# Altium footprint library MyPcbLib.PcbLib: 42 footprints (part 2 of 3)
Each footprint in its own frame and in the unit in brackets; x right, y up, seen from the top. Pads: shape width x height; smd on the part's side, far side on the other; paste and mask are expansions set on the pad; w line width, h text height; cw(c..) or ccw(c..) is an arc to the next point about the centre after c.
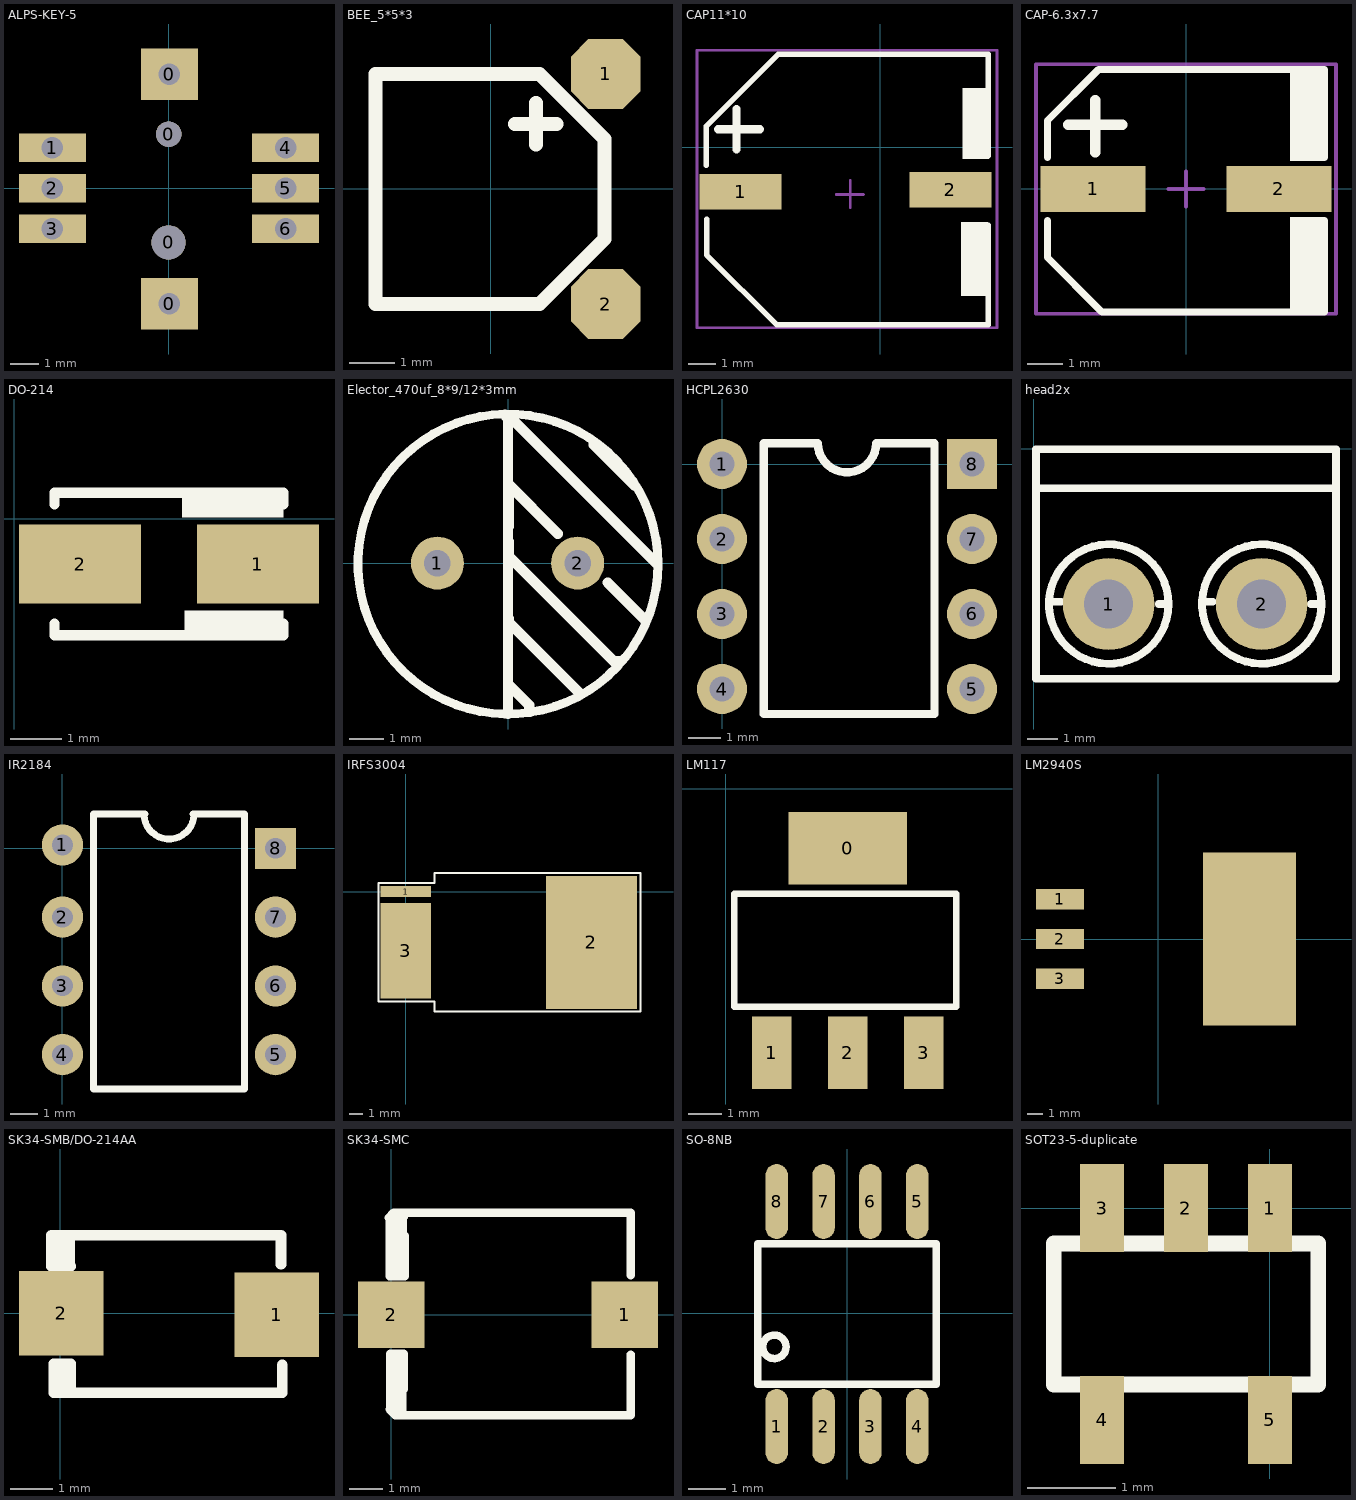
[diagram p1: the footprints below, top view; thin cyan lines are the x and y axes]

## ALPS-KEY-5 [mil]
pads (10):
  round 47.24 hole 47.24: 0(0,-75)
  round 35.43 hole 35.43: 0(0,75)
  rect 78.74x70.87 hole 30: 0(1,-160) 0(1,158)
  rect 92.52x39.37 hole 30: 1(-161,56) 2(-161,0) 3(-161,-56) 4(162,56) 5(162,0) 6(162,-56)

## BEE_5*5*3 [mil]
pads (2):
  oct 60x60 all layers, no hole: 1(99,99) 2(99,-99)
Top Overlay:
  lines w11.81: -99,99 42,99 98,43 98,-43 42,-99 -99,-99 -99,98 -98,99 ; 21,56 57,56 ; 39,38 39,74

## CAP11*10 [mil]
pads (2):
  rect 118.11x51.18 smd: 1(-201,-64) 2(101,-61)
Top Overlay:
  rectangle: 118.31,-17 157,85.35
  rectangle: 116.31,-214.25 155,-108
  lines w7.87: -251,-26 -251,30 -147.14,133.86 155.51,133.86 155.51,-12 ; -250,-104 -250,-155 -149,-256 155.51,-256 155.51,-112
  lines w11.81: -233.94,26.05 -173.42,26.05 ; -207,-3.36 -207,55
Mechanical 15:
  lines w3.94: -63.37,-68 -24,-68 ; -43,-87 -43,-47.63 ; -264,-260 -264,139.76 168.31,139.76 168.31,-260 -264,-260
3D body: height 240.16, standoff 0, extent -153.66,-172.33 55,36.33

## CAP-6.3x7.7 [mm]
pads (2):
  rect 3x1.3 smd: 1(-2.65,0) 2(2.65,0)
Top Overlay:
  rectangle: 2.967,-3.5 3.95,-0.801
  rectangle: 2.967,0.8 3.95,3.4
  lines w0.2: -3.95,-0.9 -3.95,-1.95 -2.4,-3.5 3.95,-3.5 3.95,-0.9 ; -3.95,0.9 -3.95,1.95 -2.5,3.4 3.95,3.4 3.95,0.9
  lines w0.3: -3.351,1.83 -1.814,1.83 ; -2.583,1.043 -2.583,2.525
Mechanical 15:
  lines w0.1: -0.5,0 0.5,0 ; 0,-0.5 0,0.5 ; -4.275,-3.55 4.275,-3.55 4.275,3.55 -4.275,3.55 -4.275,-3.55
3D body: height 6.1, standoff 0, extent -2.95,-2.76 2.35,2.54

## DO-214 [mm]
pads (2):
  rect 2.4x1.55 smd: 1(4.798,-0.889) 2(1.298,-0.889)
Top Overlay:
  rectangle: 3.353,-2.289 5.298,-1.803
  rectangle: 3.302,0.025 5.298,0.511
  lines w0.2: 0.798,-2.064 0.798,-2.289 5.298,-2.289 5.298,-2.064 ; 0.798,0.286 0.798,0.511 5.298,0.511 5.298,0.286
3D body: height 2.4, standoff 0, extent 0.721,-2.277 5.321,0.423

## Elector_470uf_8*9/12*3mm [mil]
pads (2):
  round 60 hole 30: 1(-80,0) 2(79,0)
Top Overlay:
  circle w10: c0,-1 r170
  lines w11.81: -2,166 2,166 168,0 ; 0,-171 0,167 ; 0,88 2,88 ; 0,96 0,90 56.5,33.5 ; 1,-138 24,-161 24,-165 ; 1,-63 1,-67 82,-148 ; 1,24 1,8 120,-111 128,-111 ; 1,42 1,88 ; 97,135 97,134 143,88 ; 113,-22 154,-63

## HCPL2630 [mil]
pads (8):
  round 60 hole 30: 1(0,0) 2(0,-90) 3(0,-180) 4(0,-270) 5(300,-270) 6(300,-180) 7(300,-90)
  rect 60x60 hole 30: 8(300,0)
Top Overlay:
  lines w10: 50,-300 255,-300 255,25 185,25 cw(c150,25) 115,25 50,25 50,-300

## head2x [mm]
pads (2):
  round 3 hole 1.6: 1(2.453,-5.08) 2(7.453,-5.08)
Top Overlay:
  circle w0.254: c2.453,-5.08 r1.952
  circle w0.254: c7.453,-5.08 r1.951
  lines w0.254: 0.076,-1.295 9.855,-1.295 9.881,-1.27 ; 0.584,-5.004 0.889,-5.004 ; 4.089,-5.08 4.405,-5.08 ; 5.563,-5.004 5.842,-5.004 ; 9.068,-5.08 9.404,-5.08 ; 0.076,-7.518 9.881,-7.518 9.881,-0.025 0.076,-0.025 0.076,-7.518

## IR2184 [mil]
pads (8):
  round 60 hole 30: 1(0,5) 2(0,-100) 3(0,-200) 4(0,-300) 5(310,-300) 6(310,-200) 7(310,-100)
  rect 60x60 hole 30: 8(310,0)
Top Overlay:
  lines w10: 118.6,50 ccw(c155,50) 191.4,50 ; 120,50 45,50 45,-350 265,-350 265,50 190,50

## IRFS3004 [mil]
pads (3):
  rect 149.37x32 smd: 1(0,0)
  rect 270.08x393.7 smd: 2(550,-150)
  rect 149.37x282 smd: 3(0,-175)
Top Overlay:
  lines w5.91: -80,-325 -80,25 85,25 85,55 410,55 695,55 695,-355 405,-355 85,-355 85,-325 -80,-325

## LM117 [mm]
pads (4):
  rect 3.6x2.2 smd: 0(3.697,-1.801)
  rect 1.2x2.2 smd: 1(1.397,-8.001) 2(3.697,-8.001) 3(5.997,-8.001)
Top Overlay:
  lines w0.2: 0.254,-6.604 6.985,-6.604 6.985,-3.175 0.254,-3.175 0.254,-6.604

## LM2940S [mm]
pads (4):
  rect 3.05x1.3 smd: 1(-6.25,2.54) 2(-6.25,0) 3(-6.25,-2.54)
  rect 5.92x11 smd: ""(5.842,0)

## SK34-SMB/DO-214AA [mm]
pads (2):
  rect 2x2 smd: 1(5.131,-0.025) 2(0.025,0)
Top Overlay:
  lines w0.2: -0.076,1.778 -0.076,1.295 0.051,1.168 0.051,1.702 0.178,1.829 0.229,1.829 0.254,1.854 0.254,1.118 ; 0.025,-1.88 0.025,-1.194
  lines w0.254: -0.203,1.829 -0.203,1.118 0.254,1.118 ; -0.203,1.854 5.232,1.854 5.232,1.168 ; 0.254,-1.829 0.254,-1.194 -0.152,-1.194 -0.152,-1.88 5.258,-1.88 5.258,-1.219
3D body: height 2.12, standoff -0.02, extent 0.064,-1.333 5.169,1.334

## SK34-SMC [mm]
pads (2):
  rect 2x2 smd: 1(7.036,0) 2(0,0)
Top Overlay:
  lines w0.2: -0.076,1.854 -0.076,2.921 ; -0.051,-2.845 -0.051,-1.651 0.152,-1.854 0.152,-3.023 0.356,-3.023 0.356,-2.108 ; 0.102,2.057 0.102,2.896 0.152,2.946 0.406,2.946 0.305,2.845 0.305,2.413 0.381,2.337 0.381,2.921 0.203,2.743
  lines w0.254: -0.076,2.921 0.076,3.073 7.214,3.073 7.214,1.194 ; -0.051,-2.845 0.127,-3.023 7.214,-3.023 7.214,-1.194 ; 0.203,-2.057 0.381,-2.235 0.381,-1.168 -0.025,-1.168 -0.025,-1.854 0.203,-2.083 0.203,-1.321 ; 0.356,2.362 -0.051,1.956 -0.051,1.168 0.406,1.168 0.406,2.388
  lines w0.3: 0.102,1.245 0.152,1.194 0.152,2.134

## SO-8NB [mil]
pads (8):
  oval 24x80 smd: 1(-75,-121) 2(-25,-121) 3(25,-121) 4(75,-121) 5(75,119) 6(25,119) 7(-25,119) 8(-75,119)
Top Overlay:
  circle w8: c-77.5,-36 r12.5
  lines w8: -95,-76 95,-76 95,74 -95,74 -95,-76
3D body: height 61.02, standoff -1.97, extent -96.91,-118.91 96,116.91

## SOT23-5-duplicate [mm]
pads (5):
  rect 0.5x1 smd: 1(0,0) 2(-0.95,0) 3(-1.9,0) 4(-1.9,-2.4) 5(0,-2.4)
Top Overlay:
  lines w0.178: -2.45,-2 0.55,-2 0.55,-0.4 -2.45,-0.4 -2.45,-2
3D body: height 1.09, standoff -0.01, extent -2.399,-2.599 0.5,0.201